# EAGLE library part ATMEGA*1 (library atmegaX0)
Atmel ATmega1281/2561 Microcontroller 128/256 Kbytes FLASH 4 Kbytes EEPROM 8 Kbytes SRAM 54 General Purpose I/O pins 6-channels 16-bit PWM 2 x Serial USARTs 8-channels 10-bit A/D
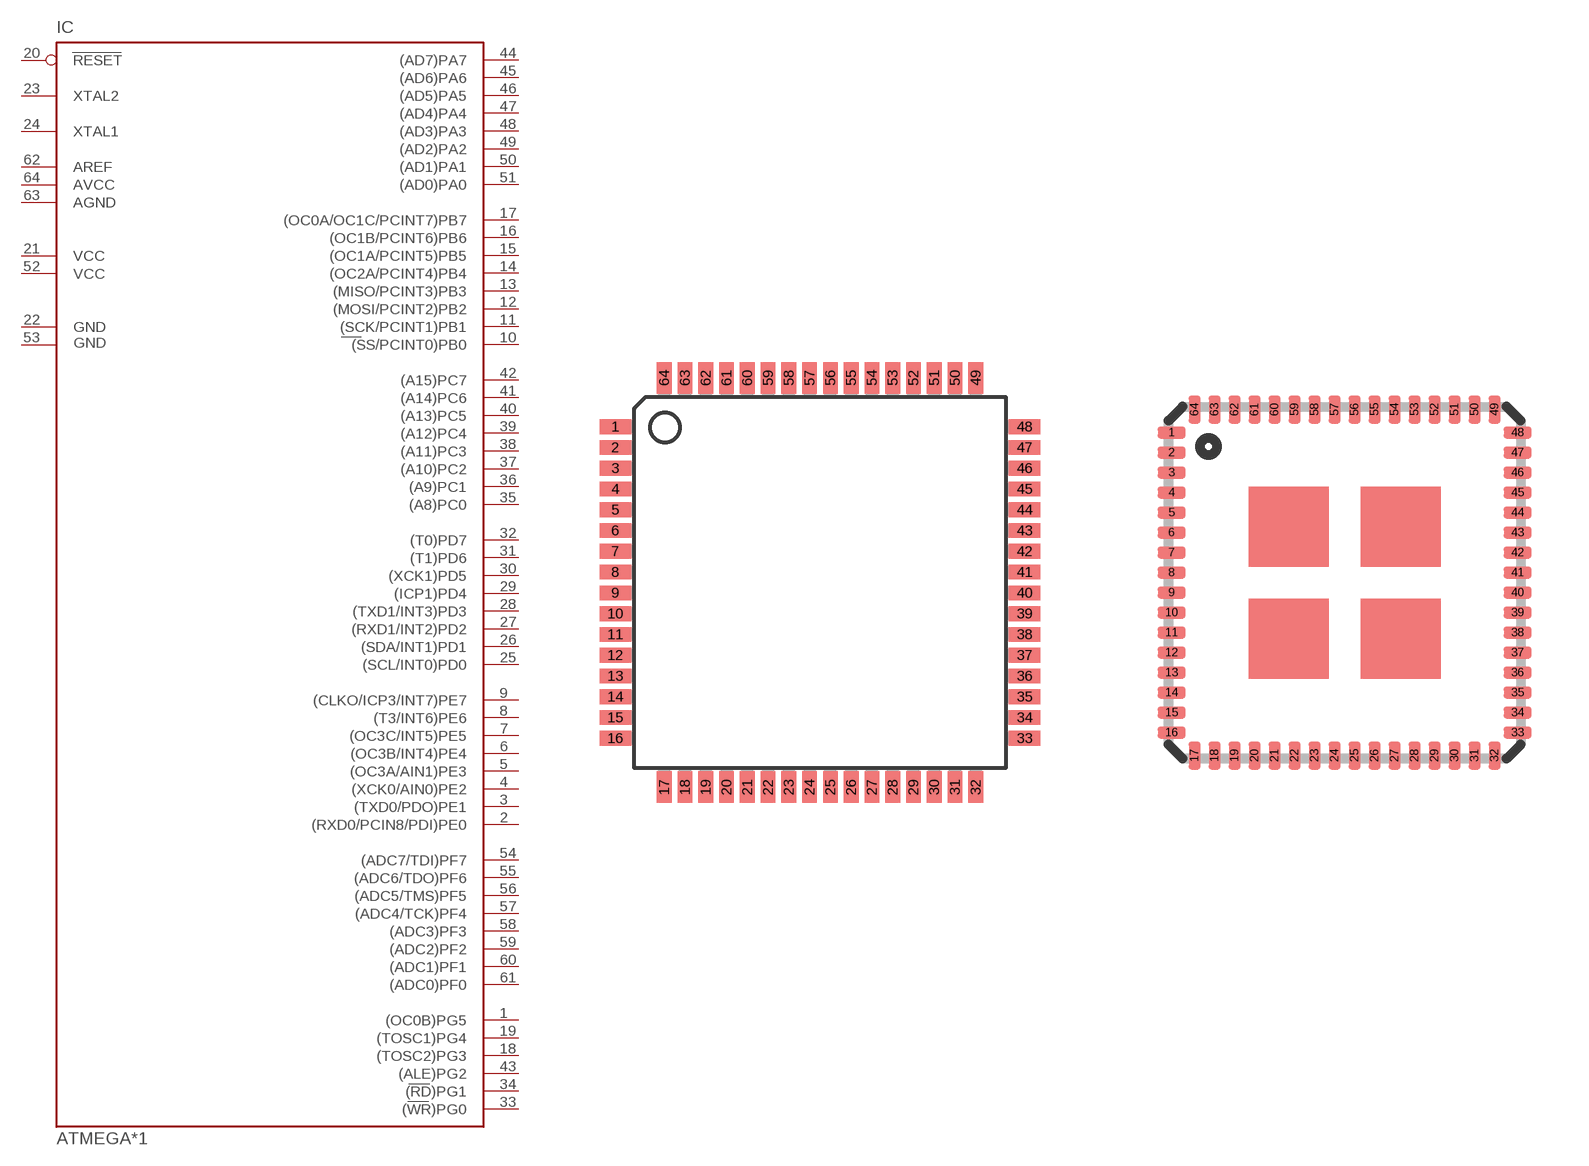
[diagram p1: symbol with the pads of TQFP64; footprints TQFP64, MLF64]

Designator prefix IC

## ATMEGA1281-161AI, ATMEGA1281V-81AI, ATMEGA2561-161AI, ATMEGA2561V-81AI  [TQFP64]
1  (OC0B)PG5
2  (RXD0/PCIN8/PDI)PE0
3  (TXD0/PDO)PE1
4  (XCK0/AIN0)PE2
5  (OC3A/AIN1)PE3
6  (OC3B/INT4)PE4
7  (OC3C/INT5)PE5
8  (T3/INT6)PE6
9  (CLKO/ICP3/INT7)PE7
10  (SS/PCINT0)PB0
11  (SCK/PCINT1)PB1
12  (MOSI/PCINT2)PB2
13  (MISO/PCINT3)PB3
14  (OC2A/PCINT4)PB4
15  (OC1A/PCINT5)PB5
16  (OC1B/PCINT6)PB6
17  (OC0A/OC1C/PCINT7)PB7
18  (TOSC2)PG3
19  (TOSC1)PG4
20  RESET  in
21  VCC  pwr
22  GND  pwr
23  XTAL2  out
24  XTAL1  in
25  (SCL/INT0)PD0
26  (SDA/INT1)PD1
27  (RXD1/INT2)PD2
28  (TXD1/INT3)PD3
29  (ICP1)PD4
30  (XCK1)PD5
31  (T1)PD6
32  (T0)PD7
33  (WR)PG0
34  (RD)PG1
35  (A8)PC0
36  (A9)PC1
37  (A10)PC2
38  (A11)PC3
39  (A12)PC4
40  (A13)PC5
41  (A14)PC6
42  (A15)PC7
43  (ALE)PG2
44  (AD7)PA7
45  (AD6)PA6
46  (AD5)PA5
47  (AD4)PA4
48  (AD3)PA3
49  (AD2)PA2
50  (AD1)PA1
51  (AD0)PA0
52  VCC1  pwr
53  GND1  pwr
54  (ADC7/TDI)PF7
55  (ADC6/TDO)PF6
56  (ADC5/TMS)PF5
57  (ADC4/TCK)PF4
58  (ADC3)PF3
59  (ADC2)PF2
60  (ADC1)PF1
61  (ADC0)PF0
62  AREF
63  AGND  pwr
64  AVCC  pwr

## ATMEGA1281-161AU, ATMEGA1281V-81AU, ATMEGA2561-161AU, ATMEGA2561V-81AU  [TQFP64]
Pads as for TQFP64

## ATMEGA1281-161MI, ATMEGA1281V-81MI, ATMEGA2561-161MI, ATMEGA2561V-81MI  [MLF64]
Pads as for TQFP64

## ATMEGA1281-161MU, ATMEGA1281V-81MU, ATMEGA2561-161MU, ATMEGA2561V-81MU  [MLF64]
Pads as for TQFP64

## Footprint TQFP64 (pad centres in mm)
Thin Plasic Quad Flat Package
smd 1.194 x 0.559: 1 -7.76,5.905; 2 -7.76,5.118; 3 -7.76,4.331; 4 -7.76,3.543; 5 -7.76,2.756; 6 -7.76,1.968; 7 -7.76,1.181; 8 -7.76,0.394; 9 -7.76,-0.394; 10 -7.76,-1.181; 11 -7.76,-1.968; 12 -7.76,-2.756; 13 -7.76,-3.543; 14 -7.76,-4.331; 15 -7.76,-5.118; 16 -7.76,-5.905; 33 7.76,-5.905; 34 7.76,-5.118; 35 7.76,-4.331; 36 7.76,-3.543; 37 7.76,-2.756; 38 7.76,-1.968; 39 7.76,-1.181; 40 7.76,-0.394; 41 7.76,0.394; 42 7.76,1.181; 43 7.76,1.968; 44 7.76,2.756; 45 7.76,3.543; 46 7.76,4.331; 47 7.76,5.118; 48 7.76,5.905
smd 0.559 x 1.194: 17 -5.905,-7.76; 18 -5.118,-7.76; 19 -4.331,-7.76; 20 -3.543,-7.76; 21 -2.756,-7.76; 22 -1.968,-7.76; 23 -1.181,-7.76; 24 -0.394,-7.76; 25 0.394,-7.76; 26 1.181,-7.76; 27 1.968,-7.76; 28 2.756,-7.76; 29 3.543,-7.76; 30 4.331,-7.76; 31 5.118,-7.76; 32 5.905,-7.76; 49 5.905,7.76; 50 5.118,7.76; 51 4.331,7.76; 52 3.543,7.76; 53 2.756,7.76; 54 1.968,7.76; 55 1.181,7.76; 56 0.394,7.76; 57 -0.394,7.76; 58 -1.181,7.76; 59 -1.968,7.76; 60 -2.756,7.76; 61 -3.543,7.76; 62 -4.331,7.76; 63 -5.118,7.76; 64 -5.905,7.76

## Footprint MLF64 (pad centres in mm)
64M1 Micro Lead Frame package (MLF)
smd 0.7 x 0.3: 1 -4.325,3.75; 2 -4.325,3.25; 3 -4.325,2.75; 4 -4.325,2.25; 5 -4.325,1.75; 6 -4.325,1.25; 7 -4.325,0.75; 8 -4.325,0.25; 9 -4.325,-0.25; 10 -4.325,-0.75; 11 -4.325,-1.25; 12 -4.325,-1.75; 13 -4.325,-2.25; 14 -4.325,-2.75; 15 -4.325,-3.25; 16 -4.325,-3.75; 33 4.325,-3.75; 34 4.325,-3.25; 35 4.325,-2.75; 36 4.325,-2.25; 37 4.325,-1.75; 38 4.325,-1.25; 39 4.325,-0.75; 40 4.325,-0.25; 41 4.325,0.25; 42 4.325,0.75; 43 4.325,1.25; 44 4.325,1.75; 45 4.325,2.25; 46 4.325,2.75; 47 4.325,3.25; 48 4.325,3.75
smd 0.3 x 0.7: 17 -3.75,-4.325; 18 -3.25,-4.325; 19 -2.75,-4.325; 20 -2.25,-4.325; 21 -1.75,-4.325; 22 -1.25,-4.325; 23 -0.75,-4.325; 24 -0.25,-4.325; 25 0.25,-4.325; 26 0.75,-4.325; 27 1.25,-4.325; 28 1.75,-4.325; 29 2.25,-4.325; 30 2.75,-4.325; 31 3.25,-4.325; 32 3.75,-4.325; 49 3.75,4.325; 50 3.25,4.325; 51 2.75,4.325; 52 2.25,4.325; 53 1.75,4.325; 54 1.25,4.325; 55 0.75,4.325; 56 0.25,4.325; 57 -0.25,4.325; 58 -0.75,4.325; 59 -1.25,4.325; 60 -1.75,4.325; 61 -2.25,4.325; 62 -2.75,4.325; 63 -3.25,4.325; 64 -3.75,4.325